# Altium footprint library D 电阻.PcbLib: 44 footprints (part 2 of 3)
Each footprint in its own frame and in the unit in brackets; x right, y up, seen from the top. Pads: shape width x height; smd on the part's side, far side on the other; paste and mask are expansions set on the pad; w line width, h text height; cw(c..) or ccw(c..) is an arc to the next point about the centre after c.
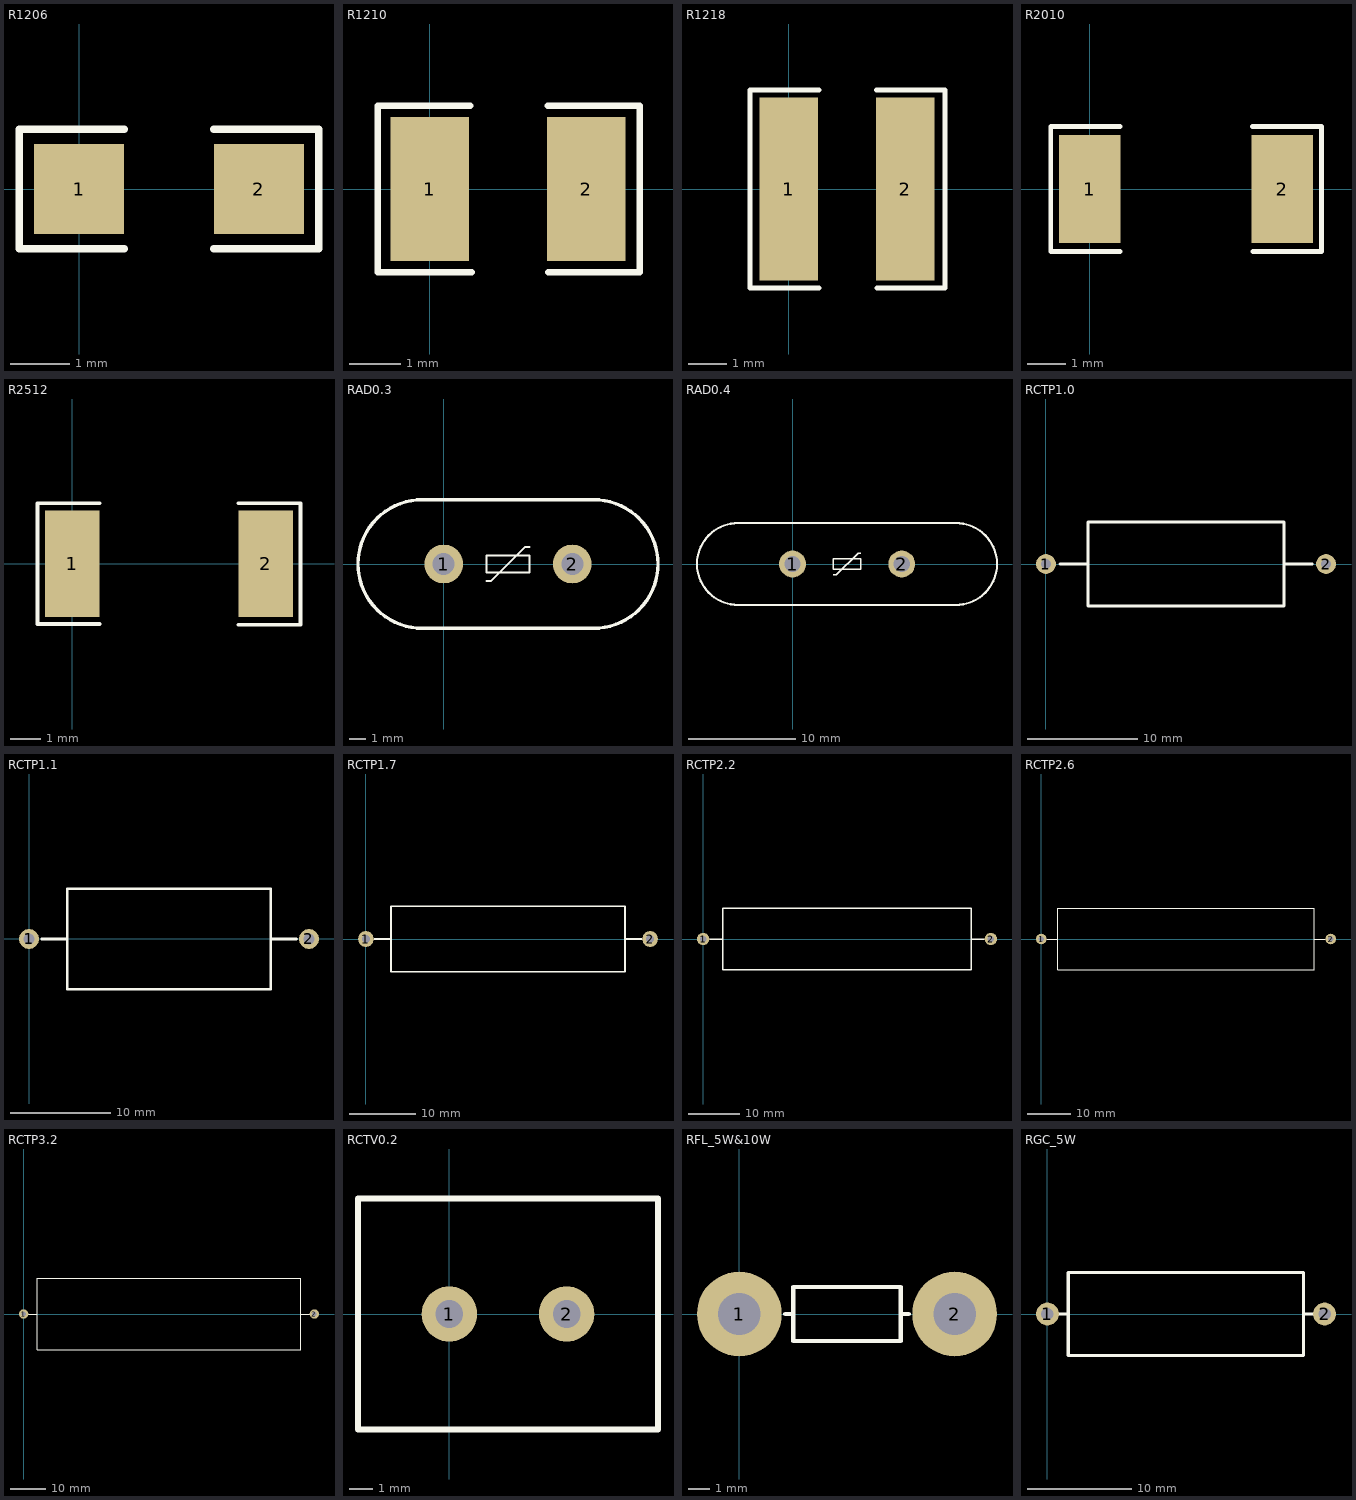
[diagram p1: the footprints below, top view; thin cyan lines are the x and y axes]

## R1206 [mil] "适用于贴片电阻1206（1/4W）、金属膜贴片0204（1/4W）"
pads (2):
  rect 60x60 smd: 1(0,0) 2(120,0)
Top Overlay:
  lines w5: 30,-40 -40,-40 -40,40 30,40 ; 90,-40 160,-40 160,40 90,40

## R1210 [mil] "适用于贴片电阻1210（1/3W）"
pads (2):
  rect 60x110.24 smd: 1(0,0) 2(120,0)
Top Overlay:
  lines w5: -40,-64 -40,64 30.98,64 ; -39,-64 31.98,-64 ; 90.54,64 161,64 161,-64 90.98,-64

## R1218 [mil] "适用于贴片电阻1218（1W）"
pads (2):
  rect 60x188.98 smd: 1(0,0) 2(120,0)
Top Overlay:
  lines w5: 30.98,-102 -40,-102 -40,102 30.98,102 ; 90.54,102 161,102 161,-102 90.98,-102

## R2010 [mm] "适用于贴片电阻2010（1/2W）"
pads (2):
  rect 1.6x2.8 smd: 1(0,0) 2(5,0)
Top Overlay:
  lines w0.127: 0.787,-1.626 -1.016,-1.626 -1.016,1.626 0.787,1.626 ; 4.23,1.626 6.02,1.626 6.02,-1.626 4.241,-1.626

## R2512 [mm] "适用于贴片电阻2512（1W）"
pads (2):
  rect 1.8x3.5 smd: 1(0,0) 2(6.35,0)
Top Overlay:
  lines w0.127: 0.889,-1.981 -1.143,-1.981 -1.143,1.981 0.889,1.981 ; 5.461,-2.007 7.493,-2.007 7.493,1.981 5.461,1.981

## RAD0.3 [mm] "适用于类似君耀10D、14D系列"
pads (2):
  round 2.3 hole 1.3: 1(0,0) 2(7.62,0)
Top Overlay:
  lines w0.127: 2.54,-1.016 2.794,-1.016 4.826,1.016 5.08,1.016 ; 2.54,-0.508 2.54,0.508 5.08,0.508 5.08,-0.508 2.54,-0.508
  lines w0.203: -1.27,-3.81 cw(c-1.27,0) -1.27,3.81 8.89,3.81 cw(c8.89,0) 8.89,-3.81 -1.27,-3.81

## RAD0.4 [mm] "适用于类似君耀20D、25D系列"
pads (2):
  round 2.5 hole 1.5: 1(0,0) 2(10.16,0)
Top Overlay:
  lines w0.127: 3.81,-1.016 4.064,-1.016 6.096,1.016 6.35,1.016 ; 3.81,-0.508 3.81,0.508 6.35,0.508 6.35,-0.508 3.81,-0.508
  lines w0.203: -5.08,-3.81 cw(c-5.08,0) -5.08,3.81 15.215,3.81 cw(c15.215,0) 15.215,-3.81 -5.08,-3.81

## RCTP1.0 [mm] "适用于水泥电阻2W"
pads (2):
  round 1.8 hole 0.9: 1(0,0) 2(25.4,0)
Top Overlay:
  lines w0.254: 1.27,0 3.683,0 ; 21.59,0 24.155,0 ; 3.81,-3.8 3.81,3.8 21.59,3.8 21.59,-3.8 3.81,-3.8

## RCTP1.1 [mm] "适用于水泥电阻3W、5W"
pads (2):
  round 2 hole 1.1: 1(0,0) 2(27.94,0)
Top Overlay:
  lines w0.254: 1.27,0 3.683,0 ; 24.13,0 26.695,0 ; 3.81,-5 24.13,-5 24.13,5 3.81,5 3.81,-5

## RCTP1.7 [mm] "适用于水泥电阻7W"
pads (2):
  round 2.4 hole 1.2: 1(0,0) 2(43.18,0)
Top Overlay:
  lines w0.254: 1.27,0 3.683,0 ; 39.37,0 41.935,0 ; 3.81,-5 3.81,5 39.37,5 39.37,-5 3.81,-5

## RCTP2.2 [mm] "适用于水泥电阻10W、15W"
pads (2):
  round 2.4 hole 1.2: 1(0,0) 2(55.88,0)
Top Overlay:
  lines w0.254: 1.27,0 3.683,0 ; 52.07,-0.025 54.635,-0.025 ; 3.81,-6 3.81,6 52.07,6 52.07,-6 3.81,-6

## RCTP2.6 [mm] "适用于水泥电阻20W、25W"
pads (2):
  round 2.4 hole 1.2: 1(0,0) 2(66.04,0)
Top Overlay:
  lines w0.254: 1.27,0 3.683,0 ; 62.23,0 64.795,0 ; 3.81,-7 3.81,7 62.23,7 62.23,-7 3.81,-7

## RCTP3.2 [mm] "适用于水泥电阻30W、35W"
pads (2):
  round 2.6 hole 1.3: 1(0,0) 2(81.28,0)
Top Overlay:
  lines w0.254: 1.27,0 3.683,0 ; 77.419,0 79.985,0 ; 3.81,-10 77.419,-10 77.419,10 3.81,10 3.81,-10

## RCTV0.2 [mm] "适用于垂直型水泥电阻3W、5W、7W、10W"
pads (2):
  round 2.4 hole 1.2: 1(0,0) 2(5.08,0)
Top Overlay:
  lines w0.254: -3.96,-5 -3.96,5 9.04,5 9.04,-5 -3.96,-5

## RFL_5W&10W [mm] "适用于FL-2U分流电阻器5W、10W"
pads (2):
  round 4 hole 2: 1(0,0) 2(10.16,0)
Top Overlay:
  lines w0.203: 2.159,0 2.54,0 ; 7.62,0 8.001,0 ; 2.54,-1.27 7.62,-1.27 ; 2.54,-1.27 7.62,-1.27 ; 2.54,-1.27 2.54,-0.381 2.54,1.27 7.62,1.27 7.62,-1.27

## RGC_5W [mm] "适用于类似台湾双羽采样电阻RGC系列5W"
pads (2):
  round 2.2 hole 1.2: 1(0,0) 2(26.67,0)
Top Overlay:
  lines w0.305: 0,0 2,0 ; 24.638,0 26.638,0 ; 2,-4 24.638,-4 24.638,4 2,4 2,-4